# Altium footprint library Components.PcbLib: 22 footprints (part 1 of 2)
Each footprint in its own frame and in the unit in brackets; x right, y up, seen from the top. Pads: shape width x height; smd on the part's side, far side on the other; paste and mask are expansions set on the pad; w line width, h text height; cw(c..) or ccw(c..) is an arc to the next point about the centre after c.
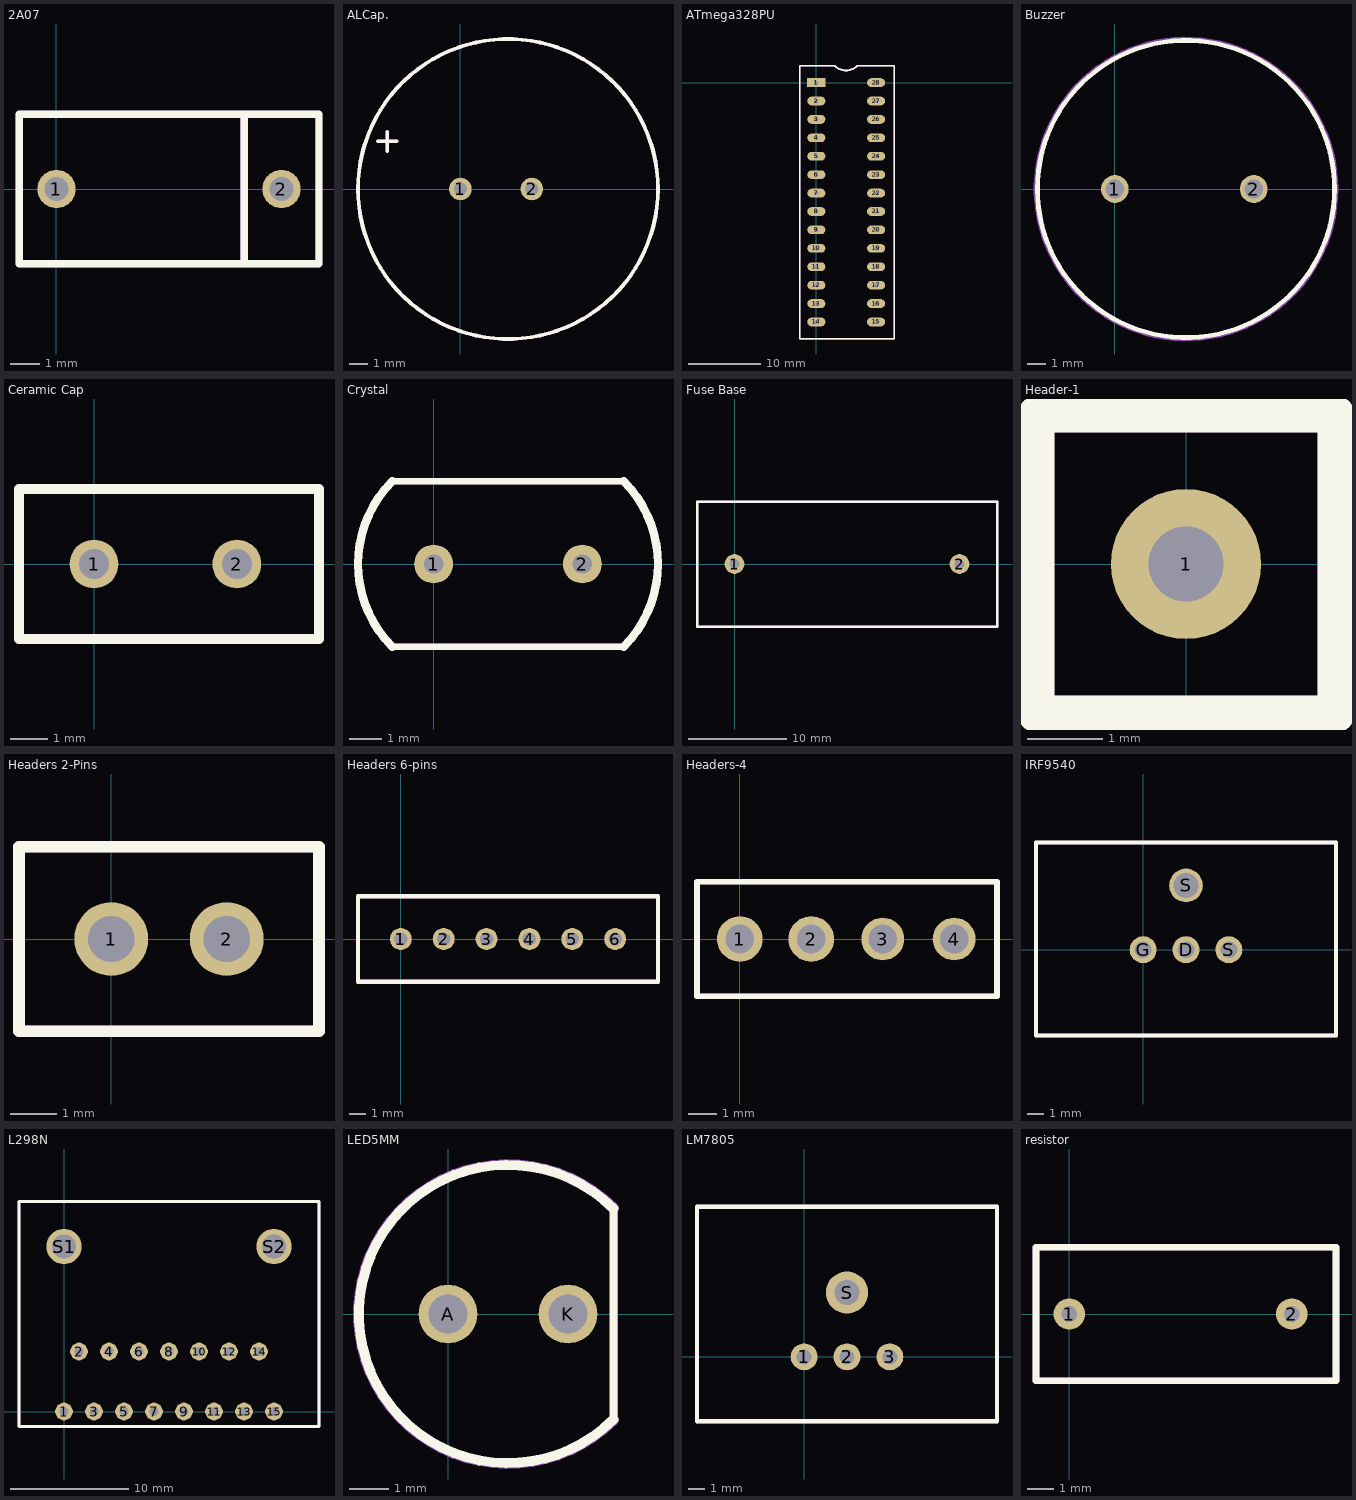
[diagram p0: the footprints below, top view; thin cyan lines are the x and y axes]

## 2A07 [mm]
pads (2):
  round 1.3 hole 0.8: 1(0,0) 2(7.62,0)
Top Overlay:
  lines w0.254: 6.35,-2.54 6.35,2.54 ; -1.27,-2.54 -1.27,2.54 8.89,2.54 8.89,-2.54 -1.27,-2.54
Assembly Notes:
  lines w0.254: 6.35,-2.54 6.35,2.54 ; -1.27,-2.54 -1.27,2.54 8.89,2.54 8.89,-2.54 -1.27,-2.54
  text ".Designator" at 0.4,-1.474 h2
3D body "diode 1N4001.step": height 2.47, standoff -2.3, extent -0.258,-1.271 7.878,1.261

## ALCap. [mm]
pads (2):
  round 1.2 hole 0.7: 1(0,0) 2(3.81,0)
Top Overlay:
  circle w0.2: c2.54,0 r8
  lines w0.2: -4.408,2.54 -3.392,2.54 ; -3.9,2.032 -3.9,3.048
Assembly Notes:
  circle w0.2: c2.54,0 r8
  lines w0.2: -4.408,2.54 -3.392,2.54 ; -3.9,2.032 -3.9,3.048
  text ".Designator" at -3.31,-2.31 h3
3D body "CapElect_470uF_50V.STEP": height 20, standoff -3.5, extent -3.02,-5.052 6.98,4.948

## ATmega328PU [mm]
pads (28):
  rect 2.5x1.2 hole 0.6: 1(0,0)
  oval 2.5x1.2 hole 0.6: 2(0,-2.54) 3(0,-5.08) 4(0,-7.62) 5(0,-10.16) 6(0,-12.7) 7(0,-15.24) 8(0,-17.78) 9(0,-20.32) 10(0,-22.86) 11(0,-25.4) 12(0,-27.94) 13(0,-30.48) 14(0,-33.02) 15(8.255,-33.02) 16(8.255,-30.48) 17(8.255,-27.94) 18(8.255,-25.4) 19(8.255,-22.86) 20(8.255,-20.32) 21(8.255,-17.78) 22(8.255,-15.24) 23(8.255,-12.7) 24(8.255,-10.16) 25(8.255,-7.62) 26(8.255,-5.08) 27(8.255,-2.54) 28(8.255,0)
Top Overlay:
  lines w0.2: 2.56,2.304 -2.304,2.304 -2.304,-35.328 10.752,-35.328 10.752,2.304 5.632,2.304
  lines w0.254: 2.56,2.304 ccw(c4.096,3.84) 5.632,2.304
Assembly Notes:
  lines w0.2: 2.56,2.304 -2.284,2.263 -2.284,-35.369 10.772,-35.369 10.772,2.263 5.632,2.304
  lines w0.254: 2.56,2.304 ccw(c4.096,3.84) 5.632,2.304
  text ".Designator" at 8.484,-34.06 h3
3D body "ATMEGA328p_Socket.stp": height 8.1, standoff -3.4, extent -0.768,-34.415 9.232,1.135

## Buzzer [mm]
pads (2):
  round 1.5 hole 1: 1(0,0) 2(7.5,0)
Top Overlay:
  circle w0.254: c3.84,0 r8.018
Assembly Notes:
  circle w0.254: c3.84,0 r8.095
3D body "Buzzer 5v.stp": height 9.51, standoff -6.19, extent -2.16,-5.744 9.84,6.256

## Ceramic Cap [mm]
pads (2):
  round 1.3 hole 0.8: 1(0,0) 2(3.81,0)
Top Overlay:
  lines w0.254: -2,-2 -2,2 6,2 6,-2 -2,-2
Assembly Notes:
  lines w0.254: -2,-2 -2,2 6,2 6,-2 -2,-2
  text ".Designator" at -0.85,-0.65 h0.6
3D body "Ceramic Cap, 5mm lead spacing, 4mm width, and 5.5mm tall, v4 v2.step": height 4, standoff -3.3, extent -0.825,-1.208 4.825,1.248

## Crystal [mm]
pads (2):
  round 1.2 hole 0.6: 1(0,0) 2(4.608,0)
Top Overlay:
  lines w0.2: -1.28,-2.56 5.888,-2.56 ; -1.28,2.56 5.888,2.56
  lines w0.254: -1.28,-2.56 cw(c1.28,0) -1.28,2.56 ; 5.888,-2.56 ccw(c3.328,0) 5.888,2.56
Assembly Notes:
  lines w0.2: -1.28,-2.56 5.888,-2.56 ; -1.28,2.56 5.888,2.56
  lines w0.254: -1.28,-2.56 cw(c1.28,0) -1.28,2.56 ; 5.888,-2.56 ccw(c3.328,0) 5.888,2.56
  text ".Designator" at -1.036,-1.316 h3
3D body "Crystal Oscillator.STEP": height 4, standoff -12.83, extent -3.454,-2.446 8.046,2.554

## Fuse Base [mm]
pads (2):
  round 2 hole 1: 1(0,0) 2(22.86,0)
Top Overlay:
  lines w0.254: -3.81,-6.35 26.67,-6.35 26.67,6.35 -3.81,6.35 -3.81,-6.35
Assembly Notes:
  lines w0.254: -3.81,-6.35 26.67,-6.35 26.67,6.35 -3.81,6.35 -3.81,-6.35
  text ".Designator" at -2.04,-3.58 h3
3D body "User Library-BLX-A Fuse Holder.step": height 13.07, standoff -4, extent -1.948,-4.8 25.23,4.8

## Header-1 [mm]
pads (1):
  round 2 hole 1: 1(0,0)
Top Overlay:
  lines w0.5: -2,-2 -2,2 2,2 2,-2 -2,-2
Assembly Notes:
  lines w0.5: -2,-2 -2,2 2,2 2,-2 -2,-2
  text ".Designator" at -1.3,-1.067 h0.7
3D body "Pin Header 1x1 TH Pitch 2.54mm.stp": height 9.5, standoff -3.2, extent -1.27,-1.27 1.27,1.27

## Headers 2-Pins [mm]
pads (2):
  round 1.6 hole 1: 1(0,0) 2(2.5,0)
Top Overlay:
  lines w0.254: -2,-2 -2,2 4.5,2 4.5,-2 -2,-2
Assembly Notes:
  lines w0.254: -2,-2 -2,2 4.5,2 4.5,-2 -2,-2
  text ".Designator" at -1.4,-1.234 h2
3D body "61300211121_Download_STP_61300211121_rev1.stp": height 9.27, standoff -2.27, extent -1.252,-1.252 3.828,1.288

## Headers 6-pins [mm]
pads (6):
  round 1.3 hole 0.8: 1(0,0) 2(2.54,0) 3(5.08,0) 4(7.62,0) 5(10.16,0) 6(12.7,0)
Top Overlay:
  lines w0.254: -2.54,-2.54 -2.54,2.54 15.24,2.54 15.24,-2.54 -2.54,-2.54
Assembly Notes:
  lines w0.254: -2.54,-2.54 -2.54,2.54 15.24,2.54 15.24,-2.54 -2.54,-2.54
  text ".Designator" at -1.041,-0.816 h1.34
3D body "61300211121_Download_STP_61300211121_rev1.stp": height 8.47, standoff -3.07, extent -1.27,-1.27 3.81,1.27
3D body "61300211121_Download_STP_61300211121_rev1.stp": height 8.47, standoff -3.07, extent 3.81,-1.27 8.89,1.27
3D body "61300211121_Download_STP_61300211121_rev1.stp": height 8.47, standoff -3.07, extent 8.89,-1.27 13.97,1.27

## Headers-4 [mm]
pads (4):
  round 1.6 hole 1: 1(0,0) 2(2.5,0)
  round 1.5 hole 1: 3(5,0) 4(7.5,0)
Top Overlay:
  lines w0.2: -1.5,-2 9,-2 9,2 -1.5,2 -1.5,-2
Assembly Notes:
  lines w0.2: -1.5,-2 9,-2 9,2 -1.5,2 -1.5,-2
  text ".Designator" at -0.5,-1.334 h2
3D body "61300211121_Download_STP_61300211121_rev1.stp": height 9.27, standoff -2.27, extent 3.748,-1.252 8.828,1.288
3D body "61300211121_Download_STP_61300211121_rev1.stp": height 9.27, standoff -2.27, extent -1.252,-1.252 3.828,1.288

## IRF9540 [mm]
pads (4):
  round 1.6 hole 1: D(2.54,0) G(0,0) S(5.08,0)
  round 2 hole 1.5: S(2.54,3.81)
Top Overlay:
  lines w0.254: -6.35,-5.08 11.43,-5.08 11.43,6.35 -6.35,6.35 -6.35,-5.08
Assembly Notes:
  lines w0.254: -6.35,-5.08 11.43,-5.08 11.43,6.35 -6.35,6.35 -6.35,-5.08
  text ".Designator" at -4.58,-2.31 h3
3D body "TO220andHeatsinkAssy.STEP": height 20.8, standoff -2.31, extent -4.96,-4.468 10.04,5.08

## L298N [mm]
pads (17):
  round 1.5 hole 0.8: 1(0,0) 2(1.27,5.08) 3(2.54,0) 4(3.81,5.08) 5(5.08,0) 6(6.35,5.08) 7(7.62,0) 8(8.89,5.08) 9(10.16,0) 10(11.43,5.08) 11(12.7,0) 12(13.97,5.08) 13(15.24,0) 14(16.51,5.08) 15(17.78,0)
  round 3 hole 2: S1(0,13.97) S2(17.78,13.97)
Top Overlay:
  lines w0.254: -3.81,-1.27 -3.81,17.78 21.59,17.78 21.59,-1.27 -3.81,-1.27
Assembly Notes:
  lines w0.254: -3.81,-1.27 -3.81,17.78 21.59,17.78 21.59,-1.27 -3.81,-1.27
  text ".Designator" at -1.24,3.633 h7
3D body "L298N_Heatsink_axisY.step": height 25.7, standoff -3.3, extent -2.629,-0.279 20.371,16.741

## LED5MM [mm]
pads (2):
  round 1.5 hole 1: A(0,0) K(3.072,0)
Top Overlay:
  lines w0.2: 4.235,-2.699 4.235,2.699
  lines w0.254: 4.235,-2.699 cw(c1.536,0) 4.235,2.699
Assembly Notes:
  lines w0.2: 4.251,-2.715 4.251,2.715
  lines w0.254: 4.251,-2.715 cw(c1.536,0) 4.251,2.715
  text ".Designator" at -0.78,-0.882 h2
3D body "5MM LED RED.step": height 8.6, standoff -5, extent -1.014,-2.55 4.086,2.55

## LM7805 [mm]
pads (4):
  round 1.6 hole 0.9: 1(0,0) 2(2.54,0) 3(5.08,0)
  round 2.5 hole 1.5: S(2.54,3.81)
Top Overlay:
  lines w0.254: -6.35,-3.81 11.43,-3.81 11.43,8.89 -6.35,8.89 -6.35,-3.81
Assembly Notes:
  lines w0.254: -6.35,-3.81 11.43,-3.81 11.43,8.89 -6.35,8.89 -6.35,-3.81
  text ".Designator" at -4.08,0.126 h5
3D body "78xx.STEP": height 22.95, standoff -8.8, extent -4.805,-3.033 9.895,7.467

## resistor [mm]
pads (2):
  round 1.2 hole 0.6: 1(0,0) 2(8.476,0)
Top Overlay:
  lines w0.254: -1.27,-2.54 10.16,-2.54 10.16,2.54 -1.27,2.54 -1.27,-2.54
Assembly Notes:
  lines w0.254: -1.27,-2.54 -1.27,2.54 10.16,2.54 10.16,-2.54 -1.27,-2.54
  text ".Designator" at 0.254,-0.677 h1.02
3D body "resistor025W-10k.STEP": height 3.25, standoff -2, extent -0.325,-1.25 8.775,1.25